# Altium footprint library PcbLib1.PcbLib: 1 footprints
Each footprint in its own frame and in the unit in brackets; x right, y up, seen from the top. Pads: shape width x height; smd on the part's side, far side on the other; paste and mask are expansions set on the pad; w line width, h text height; cw(c..) or ccw(c..) is an arc to the next point about the centre after c.
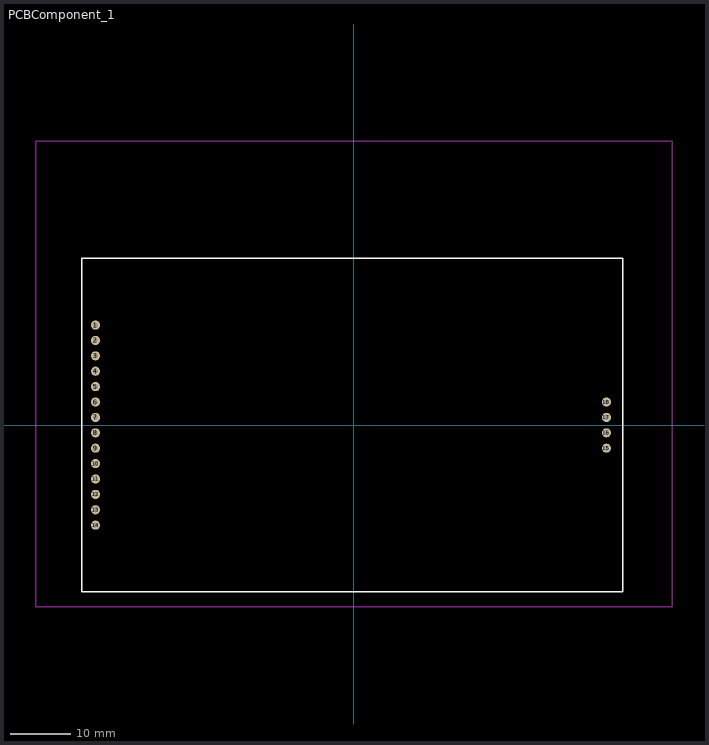
[diagram p0: the footprint, top view; thin cyan lines are the x and y axes]

## PCBComponent_1 [mm]
pads (18):
  round 1.5 hole 0.9: 1(-42.65,16.51) 2(-42.65,13.97) 3(-42.65,11.43) 4(-42.65,8.89) 5(-42.65,6.35) 6(-42.65,3.81) 7(-42.65,1.27) 8(-42.65,-1.27) 9(-42.65,-3.81) 10(-42.65,-6.35) 11(-42.65,-8.89) 12(-42.65,-11.43) 13(-42.65,-13.97) 14(-42.65,-16.51) 15(41.65,-3.81) 16(41.65,-1.27) 17(41.65,1.27) 18(41.65,3.81)
Top Overlay:
  lines w0.254: -44.922,-27.52 44.378,-27.52 44.378,27.52 -44.922,27.52 -44.922,-27.52
Keep-Out Layer:
  lines w0.254: -52.5,-30 52.5,-30 52.5,46.863 -52.5,46.863 -52.5,-30
3D body: height 11, standoff 7, extent -10.982,27.54 14.03,45.867
3D body: height 15.1, standoff 11, extent -44.65,-27.52 44.65,27.583
3D body: height 11, standoff 6.9, extent -14.011,6.52 16.805,27.516
3D body: height 11, standoff 9, extent 8.452,-27.527 44.38,-6.255